# Altium footprint library BM10B-GHS-TBT_LF__SN__N_.PCBLIB: 1 footprints
Each footprint in its own frame and in the unit in brackets; x right, y up, seen from the top. Pads: shape width x height; smd on the part's side, far side on the other; paste and mask are expansions set on the pad; w line width, h text height; cw(c..) or ccw(c..) is an arc to the next point about the centre after c.
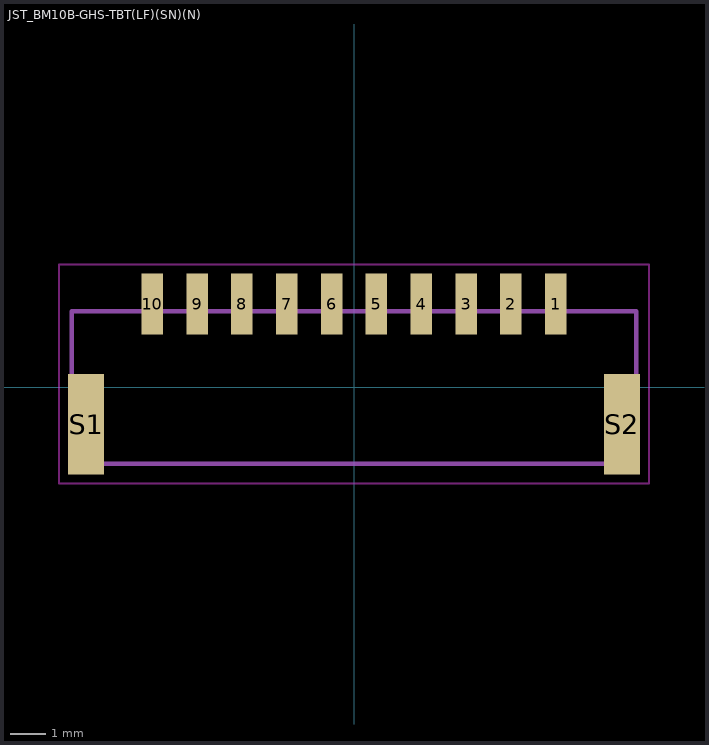
[diagram p0: the footprint, top view; thin cyan lines are the x and y axes]

## JST_BM10B-GHS-TBT(LF)(SN)(N) [mm]
pads (12):
  rect 0.6x1.7 smd: 1(5.625,2.325) 2(4.375,2.325) 3(3.125,2.325) 4(1.875,2.325) 5(0.625,2.325) 6(-0.625,2.325) 7(-1.875,2.325) 8(-3.125,2.325) 9(-4.375,2.325) 10(-5.625,2.325)
  rect 1x2.8 smd: S1(-7.475,-1.025) S2(7.475,-1.025)
Top keep-out:
  lines w0.05: -8.225,-2.68 -8.225,3.43 8.225,3.43 8.225,-2.68 -8.225,-2.68
tDocu:
  lines w0.127: -7.875,-2.125 -7.875,2.125 7.875,2.125 7.875,-2.125 -7.875,-2.125
  text "1" at 5.6,3.6 h0.94
  text "10" at -6,3.6 h0.94
tPlace:
  lines w0.127: -7.875,0.75 -7.875,2.125 -6.25,2.125 ; -6.37,-2.125 6.37,-2.125 ; 6.25,2.125 7.875,2.125 7.875,0.75
  text "10" at -6,3.6 h0.94
  text "1" at 5.6,3.6 h0.94